# Altium integrated library TI Power Management Linear Regulator Single Channel LDO (0-350mA).IntLib: 1648 symbols (part 46 of 66)
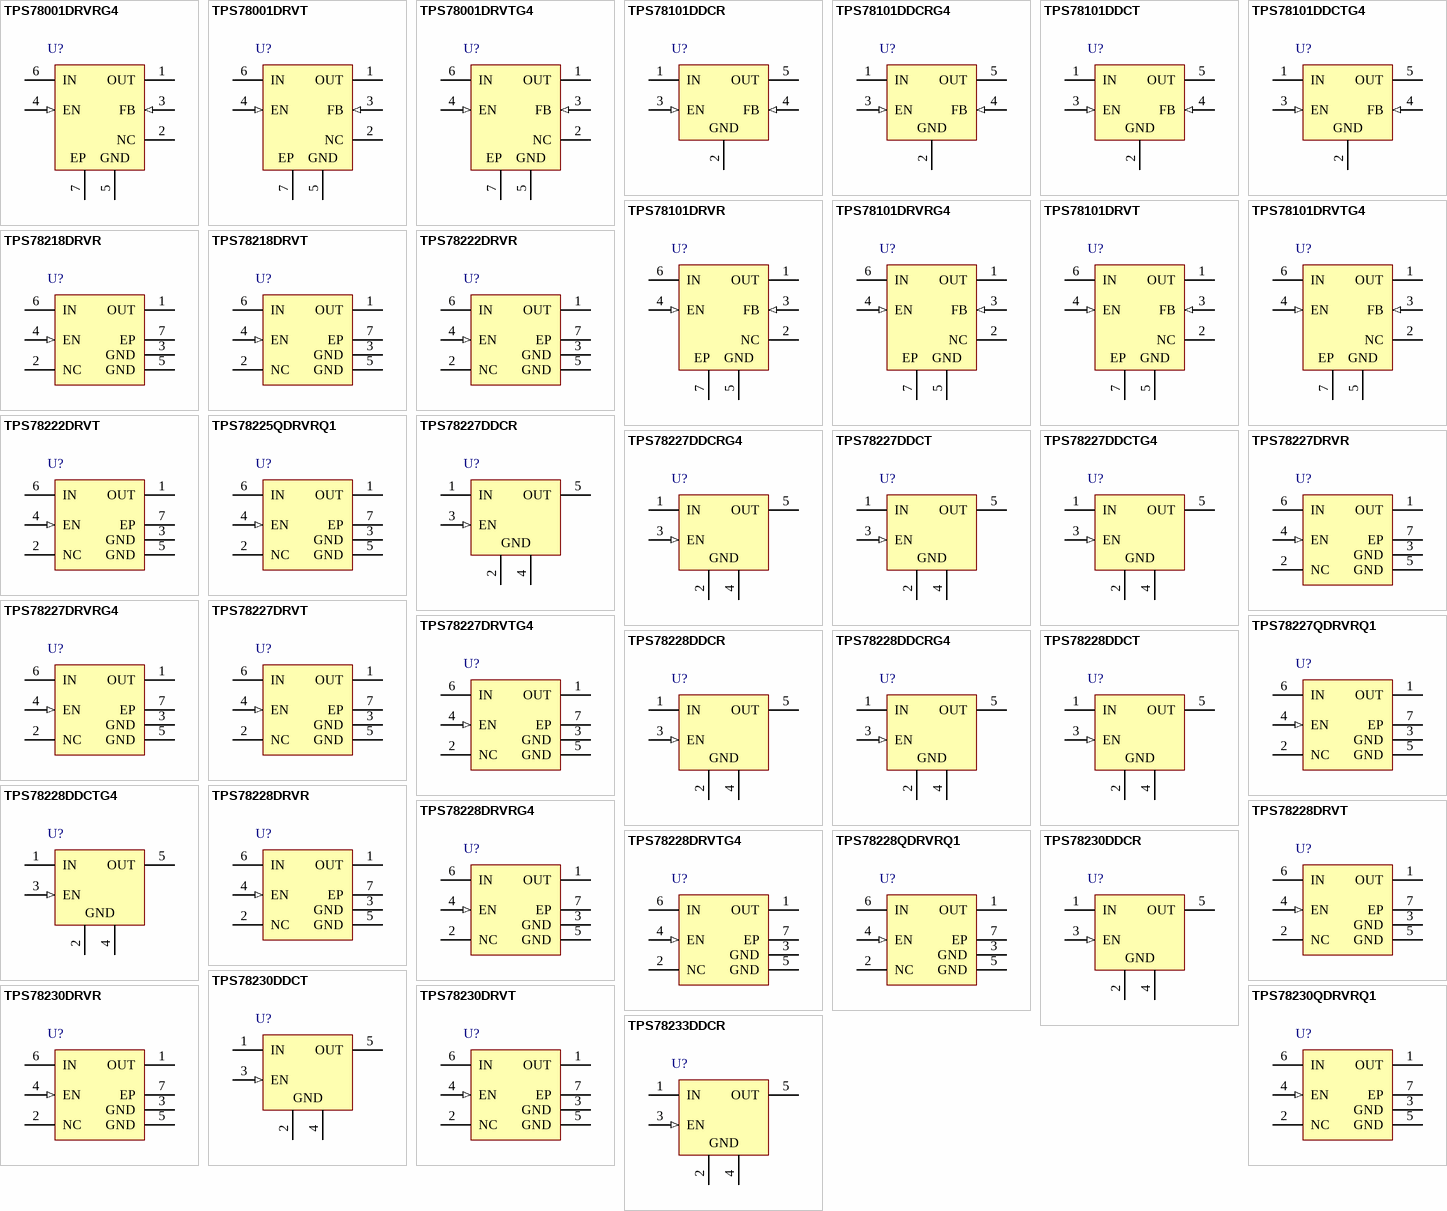
[diagram p87: symbols TPS78001DRVRG4 to TPS78233DDCR]

## TPS78227DRVRG4
designator U?
Single Output LDO, 150 mA, Fixed 2.7 V Output, 2.2 to 5.5 V Input, with 0.5 uA Quiescent Current, 6-pin SON (DRV), -40 to 85 degC, Green (RoHS & no Sb/Br); Manufacturer: Texas Instruments; PartNumber: TPS78227DRVRG4; Accuracy(%): 3; Dynamic Voltage Scaling: TRUE; Fixed Output Options(V): 2.7; Iout(Max)(A): 0.15; Iq(Typ)(mA): 0.0005; Rating: Catalog; SubFamily: Single Channel LDO; Vdo(Typ)(mV): 130; Vin(Max)(V): 5.5; Vin(Min)(V): 2.2; DatasheetVersion: SBVS115B; PackageVersion: 4206925/E; PackageReference: DRV6-1600X1000TP; PackageDescription: 6-Pin Plastic Small Outline No-Lead, Body 2 x 2 mm, Pitch 0.65 mm; Supplier 1: Digi-Key; Supplier Part Number 1: TPS78227DRVRG4-ND; Supplier 2: Mouser; Supplier Part Number 2: 595-TPS78227DRVRG4; Eco-Plan: Green (RoHS & no Sb/Br); Vout Adj(Max)(V): 2.7; Vout Adj(Min)(V): 2.7; Mounting Technology: Surface Mount; ComponentLink1Description: Manufacturer URL; ComponentLink1URL: http://www.ti.com/; ComponentLink2Description: Datasheet; ComponentLink2URL: http://www.ti.com/general/docs/lit/getliterature.tsp?genericPartNumber=TPS78227&fileType=pdf; ComponentLink3Description: Package Specification; ComponentLink3URL: http://www.ti.com/litv/pdf/mpds216d
footprint TI-DRV6-1600X1000TP_V (SON, 6-Leads, Body 2x2mm, Pitch 0.65mm, Thermal Pad 1X1.6mm)
pins: 1 OUT (power) "Regulated output voltage pin. A small (1uF) ceramic capacitor is needed from this pin to ground to assure stability.", 2 NC "Not connected.", 3 GND (power) "ALL ground pins must be tied to ground for proper operation.", 4 EN (in) "Driving the enable pin (EN) over 1.2V turns ON the regulator. Driving this pin below 0.4V puts the regulator into shutdown mode, reducing operating current to 18nA typical.", 5 GND (power) "ALL ground pins must be tied to ground for proper operation.", 6 IN (power) "Input pin. A small capacitor is needed from this pin to ground to assure stability. Typical input capacitor = 1.0uF. Both input and output capacitor grounds should be tied back to the IC ground with no significant impedance (See Datasheet)", 7 EP (power) "It is recommended that the thermal pad on the SON-6 package be connected to ground."

## TPS78227DRVT
designator U?
Single Output LDO, 150 mA, Fixed 2.7 V Output, 2.2 to 5.5 V Input, with 0.5 uA Quiescent Current, 6-pin SON (DRV), -40 to 85 degC, Green (RoHS & no Sb/Br); Manufacturer: Texas Instruments; PartNumber: TPS78227DRVT; Accuracy(%): 3; Dynamic Voltage Scaling: TRUE; Fixed Output Options(V): 2.7; Iout(Max)(A): 0.15; Iq(Typ)(mA): 0.0005; Rating: Catalog; SubFamily: Single Channel LDO; Vdo(Typ)(mV): 130; Vin(Max)(V): 5.5; Vin(Min)(V): 2.2; DatasheetVersion: SBVS115B; PackageVersion: 4206925/E; PackageReference: DRV6-1600X1000TP; PackageDescription: 6-Pin Plastic Small Outline No-Lead, Body 2 x 2 mm, Pitch 0.65 mm; Supplier 1: Digi-Key; Supplier Part Number 1: 296-32569-2-ND; Supplier 2: Digi-Key; Supplier Part Number 2: 296-32569-1-ND; Supplier 3: Digi-Key; Supplier Part Number 3: 296-32569-6-ND; Supplier 4: Mouser; Supplier Part Number 4: 595-TPS78227DRVT; Eco-Plan: Green (RoHS & no Sb/Br); Vout Adj(Max)(V): 2.7; Vout Adj(Min)(V): 2.7; Mounting Technology: Surface Mount; ComponentLink1Description: Manufacturer URL; ComponentLink1URL: http://www.ti.com/; ComponentLink2Description: Datasheet; ComponentLink2URL: http://www.ti.com/general/docs/lit/getliterature.tsp?genericPartNumber=TPS78227&fileType=pdf; ComponentLink3Description: Package Specification; ComponentLink3URL: http://www.ti.com/litv/pdf/mpds216d
footprint TI-DRV6-1600X1000TP_V (SON, 6-Leads, Body 2x2mm, Pitch 0.65mm, Thermal Pad 1X1.6mm)
pins: 1 OUT (power) "Regulated output voltage pin. A small (1uF) ceramic capacitor is needed from this pin to ground to assure stability.", 2 NC "Not connected.", 3 GND (power) "ALL ground pins must be tied to ground for proper operation.", 4 EN (in) "Driving the enable pin (EN) over 1.2V turns ON the regulator. Driving this pin below 0.4V puts the regulator into shutdown mode, reducing operating current to 18nA typical.", 5 GND (power) "ALL ground pins must be tied to ground for proper operation.", 6 IN (power) "Input pin. A small capacitor is needed from this pin to ground to assure stability. Typical input capacitor = 1.0uF. Both input and output capacitor grounds should be tied back to the IC ground with no significant impedance (See Datasheet)", 7 EP (power) "It is recommended that the thermal pad on the SON-6 package be connected to ground."

## TPS78227DRVTG4
designator U?
Single Output LDO, 150 mA, Fixed 2.7 V Output, 2.2 to 5.5 V Input, with 0.5 uA Quiescent Current, 6-pin SON (DRV), -40 to 85 degC, Green (RoHS & no Sb/Br); Manufacturer: Texas Instruments; PartNumber: TPS78227DRVTG4; Accuracy(%): 3; Dynamic Voltage Scaling: TRUE; Fixed Output Options(V): 2.7; Iout(Max)(A): 0.15; Iq(Typ)(mA): 0.0005; Rating: Catalog; SubFamily: Single Channel LDO; Vdo(Typ)(mV): 130; Vin(Max)(V): 5.5; Vin(Min)(V): 2.2; DatasheetVersion: SBVS115B; PackageVersion: 4206925/E; PackageReference: DRV6-1600X1000TP; PackageDescription: 6-Pin Plastic Small Outline No-Lead, Body 2 x 2 mm, Pitch 0.65 mm; Supplier 1: Digi-Key; Supplier Part Number 1: TPS78227DRVTG4-ND; Supplier 2: Mouser; Supplier Part Number 2: 595-TPS78227DRVTG4; Eco-Plan: Green (RoHS & no Sb/Br); Vout Adj(Max)(V): 2.7; Vout Adj(Min)(V): 2.7; Mounting Technology: Surface Mount; ComponentLink1Description: Manufacturer URL; ComponentLink1URL: http://www.ti.com/; ComponentLink2Description: Datasheet; ComponentLink2URL: http://www.ti.com/general/docs/lit/getliterature.tsp?genericPartNumber=TPS78227&fileType=pdf; ComponentLink3Description: Package Specification; ComponentLink3URL: http://www.ti.com/litv/pdf/mpds216d
footprint TI-DRV6-1600X1000TP_V (SON, 6-Leads, Body 2x2mm, Pitch 0.65mm, Thermal Pad 1X1.6mm)
pins: 1 OUT (power) "Regulated output voltage pin. A small (1uF) ceramic capacitor is needed from this pin to ground to assure stability.", 2 NC "Not connected.", 3 GND (power) "ALL ground pins must be tied to ground for proper operation.", 4 EN (in) "Driving the enable pin (EN) over 1.2V turns ON the regulator. Driving this pin below 0.4V puts the regulator into shutdown mode, reducing operating current to 18nA typical.", 5 GND (power) "ALL ground pins must be tied to ground for proper operation.", 6 IN (power) "Input pin. A small capacitor is needed from this pin to ground to assure stability. Typical input capacitor = 1.0uF. Both input and output capacitor grounds should be tied back to the IC ground with no significant impedance (See Datasheet)", 7 EP (power) "It is recommended that the thermal pad on the SON-6 package be connected to ground."

## TPS78227QDRVRQ1
designator U?
Single Output Automotive LDO, 150 mA, Fixed 2.7 V Output, 2.2 to 5.5 V Input, with 1 uA Quiescent Current, 6-pin SON (DRV), -40 to 125 degC, Green (RoHS & no Sb/Br); Manufacturer: Texas Instruments; PartNumber: TPS78227QDRVRQ1; Accuracy(%): 3; Fixed Output Options(V): 2.7; Iout(Max)(A): 0.15; Iq(Typ)(mA): 0.001; SubFamily: Single Channel LDO; Vdo(Typ)(mV): 130; Vin(Max)(V): 5.5; Vin(Min)(V): 2.2; DatasheetVersion: SBVS138; PackageVersion: 4206925/E; PackageReference: DRV6-1600X1000TP; PackageDescription: 6-Pin Plastic Small Outline No-Lead, Body 2 x 2 mm, Pitch 0.65 mm; Supplier 1: Digi-Key; Supplier Part Number 1: 296-25736-2-ND; Supplier 2: Digi-Key; Supplier Part Number 2: 296-25736-1-ND; Supplier 3: Digi-Key; Supplier Part Number 3: 296-25736-6-ND; Supplier 4: Newark; Supplier Part Number 4: 64R0792; Supplier 5: Mouser; Supplier Part Number 5: 595-TPS78227QDRVRQ1; Eco-Plan: Green (RoHS & no Sb/Br); Rating: Automotive; Vout Adj(Max)(V): 2.7; Vout Adj(Min)(V): 2.7; Mounting Technology: Surface Mount; ComponentLink1Description: Manufacturer URL; ComponentLink1URL: http://www.ti.com/; ComponentLink2Description: Datasheet; ComponentLink2URL: http://www.ti.com/general/docs/lit/getliterature.tsp?genericPartNumber=TPS78227-Q1&fileType=pdf; ComponentLink3Description: Package Specification; ComponentLink3URL: http://www.ti.com/litv/pdf/mpds216d
footprint TI-DRV6-1600X1000TP_V (SON, 6-Leads, Body 2x2mm, Pitch 0.65mm, Thermal Pad 1X1.6mm)
pins: 1 OUT (power) "Regulated output voltage pin. A small (1 uF) ceramic capacitor is needed from this pin to ground to assure stability. See the Input and Output Capacitor Requirements in the Application Information section for more details.", 2 NC "Not connected", 3 GND (power) "Ground pin must be tied to ground for proper operation.", 4 EN (in) "Driving the enable pin (EN) over 1.2 V turns ON the regulator. Driving this pin below 0.4 V puts the regulator into shutdown mode, reducing operating current to 18 nA typical.", 5 GND (power) "Ground pin must be tied to ground for proper operation.", 6 IN (power) "Input pin. A small capacitor is needed from this pin to ground to assure stability. Typical input capacitor = 1.0 uF. Both input and output capacitor grounds should be tied back to the IC ground with no significant impedance (See Datasheet)", 7 EP (power) "It is recommended that the thermal pad on the SON-6 package be connected to ground."

## TPS78228DDCR
designator U?
Single Output LDO, 150 mA, Fixed 2.8 V Output, 2.2 to 5.5 V Input, with 0.5 uA Quiescent Current, 5-pin SOT (DDC), -40 to 85 degC, Green (RoHS & no Sb/Br); Manufacturer: Texas Instruments; PartNumber: TPS78228DDCR; Accuracy(%): 3; Fixed Output Options(V): 2.8; Iout(Max)(A): 0.15; Iq(Typ)(mA): 0.0005; Rating: Catalog; SubFamily: Single Channel LDO; Vdo(Typ)(mV): 130; Vin(Max)(V): 5.5; Vin(Min)(V): 2.2; DatasheetVersion: SBVS115B; PackageVersion: 4204403-2/E; PackageReference: DDC5; PackageDescription: 5-Pin Plastic Small Outline, Body 2.9 x 1.6 mm, 0.95 mm Pitch; Supplier 1: Digi-Key; Supplier Part Number 1: 296-23826-2-ND; Supplier 2: Digi-Key; Supplier Part Number 2: 296-23826-1-ND; Supplier 3: Digi-Key; Supplier Part Number 3: 296-23826-6-ND; Supplier 4: Newark; Supplier Part Number 4: 12P8057; Supplier 5: Mouser; Supplier Part Number 5: 595-TPS78228DDCR; Eco-Plan: Green (RoHS & no Sb/Br); Vout Adj(Max)(V): 2.8; Vout Adj(Min)(V): 2.8; Mounting Technology: Surface Mount; Code_JEDEC: MO-193; ComponentLink1Description: Manufacturer URL; ComponentLink1URL: http://www.ti.com/; ComponentLink2Description: Datasheet; ComponentLink2URL: http://www.ti.com/general/docs/lit/getliterature.tsp?genericPartNumber=TPS78228&fileType=pdf; ComponentLink3Description: Package Specification; ComponentLink3URL: http://www.ti.com/litv/pdf/mpds123d
footprint TI-DDC5_N (SOT23, 5-Leads, Body 2.9x1.6mm, Pitch 0.95mm, IPC Medium Density)
footprint TI-DDC5_L (SOT23, 5-Leads, Body 2.9x1.6mm, Pitch 0.95mm, IPC High Density)
footprint TI-DDC5_M (SOT23, 5-Leads, Body 2.9x1.6mm, Pitch 0.95mm, IPC Low Density)
pins: 1 IN (power) "Input pin. A small capacitor is needed from this pin to ground to assure stability. Typical input capacitor = 1.0uF. Both input and output capacitor grounds should be tied back to the IC ground with no significant impedance (See Datasheet)", 2 GND (power) "ALL ground pins must be tied to ground for proper operation.", 3 EN (in) "Driving the enable pin (EN) over 1.2V turns ON the regulator. Driving this pin below 0.4V puts the regulator into shutdown mode, reducing operating current to 18nA typical.", 4 GND (power) "ALL ground pins must be tied to ground for proper operation.", 5 OUT (power) "Regulated output voltage pin. A small (1uF) ceramic capacitor is needed from this pin to ground to assure stability."

## TPS78228DDCRG4
designator U?
Single Output LDO, 150 mA, Fixed 2.8 V Output, 2.2 to 5.5 V Input, with 0.5 uA Quiescent Current, 5-pin SOT (DDC), -40 to 85 degC, Green (RoHS & no Sb/Br); Manufacturer: Texas Instruments; PartNumber: TPS78228DDCRG4; Accuracy(%): 3; Fixed Output Options(V): 2.8; Iout(Max)(A): 0.15; Iq(Typ)(mA): 0.0005; Rating: Catalog; SubFamily: Single Channel LDO; Vdo(Typ)(mV): 130; Vin(Max)(V): 5.5; Vin(Min)(V): 2.2; DatasheetVersion: SBVS115B; PackageVersion: 4204403-2/E; PackageReference: DDC5; PackageDescription: 5-Pin Plastic Small Outline, Body 2.9 x 1.6 mm, 0.95 mm Pitch; Supplier 1: Digi-Key; Supplier Part Number 1: TPS78228DDCRG4-ND; Supplier 2: Mouser; Supplier Part Number 2: 595-TPS78228DDCRG4; Eco-Plan: Green (RoHS & no Sb/Br); Vout Adj(Max)(V): 2.8; Vout Adj(Min)(V): 2.8; Mounting Technology: Surface Mount; Code_JEDEC: MO-193; ComponentLink1Description: Manufacturer URL; ComponentLink1URL: http://www.ti.com/; ComponentLink2Description: Datasheet; ComponentLink2URL: http://www.ti.com/general/docs/lit/getliterature.tsp?genericPartNumber=TPS78228&fileType=pdf; ComponentLink3Description: Package Specification; ComponentLink3URL: http://www.ti.com/litv/pdf/mpds123d
footprint TI-DDC5_N (SOT23, 5-Leads, Body 2.9x1.6mm, Pitch 0.95mm, IPC Medium Density)
footprint TI-DDC5_L (SOT23, 5-Leads, Body 2.9x1.6mm, Pitch 0.95mm, IPC High Density)
footprint TI-DDC5_M (SOT23, 5-Leads, Body 2.9x1.6mm, Pitch 0.95mm, IPC Low Density)
pins: 1 IN (power) "Input pin. A small capacitor is needed from this pin to ground to assure stability. Typical input capacitor = 1.0uF. Both input and output capacitor grounds should be tied back to the IC ground with no significant impedance (See Datasheet)", 2 GND (power) "ALL ground pins must be tied to ground for proper operation.", 3 EN (in) "Driving the enable pin (EN) over 1.2V turns ON the regulator. Driving this pin below 0.4V puts the regulator into shutdown mode, reducing operating current to 18nA typical.", 4 GND (power) "ALL ground pins must be tied to ground for proper operation.", 5 OUT (power) "Regulated output voltage pin. A small (1uF) ceramic capacitor is needed from this pin to ground to assure stability."

## TPS78228DDCT
designator U?
Single Output LDO, 150 mA, Fixed 2.8 V Output, 2.2 to 5.5 V Input, with 0.5 uA Quiescent Current, 5-pin SOT (DDC), -40 to 85 degC, Green (RoHS & no Sb/Br); Manufacturer: Texas Instruments; PartNumber: TPS78228DDCT; Accuracy(%): 3; Fixed Output Options(V): 2.8; Iout(Max)(A): 0.15; Iq(Typ)(mA): 0.0005; Rating: Catalog; SubFamily: Single Channel LDO; Vdo(Typ)(mV): 130; Vin(Max)(V): 5.5; Vin(Min)(V): 2.2; DatasheetVersion: SBVS115B; PackageVersion: 4204403-2/E; PackageReference: DDC5; PackageDescription: 5-Pin Plastic Small Outline, Body 2.9 x 1.6 mm, 0.95 mm Pitch; Supplier 1: Digi-Key; Supplier Part Number 1: 296-32570-2-ND; Supplier 2: Digi-Key; Supplier Part Number 2: 296-32570-1-ND; Supplier 3: Digi-Key; Supplier Part Number 3: 296-32570-6-ND; Supplier 4: Farnell; Supplier Part Number 4: 1684757RL; Supplier 5: Farnell; Supplier Part Number 5: 1684757; Supplier 6: Newark; Supplier Part Number 6: 12P6269; Supplier 7: Newark; Supplier Part Number 7: 40P0974; Supplier 8: Mouser; Supplier Part Number 8: 595-TPS78228DDCT; Eco-Plan: Green (RoHS & no Sb/Br); Vout Adj(Max)(V): 2.8; Vout Adj(Min)(V): 2.8; Mounting Technology: Surface Mount; Code_JEDEC: MO-193; ComponentLink1Description: Manufacturer URL; ComponentLink1URL: http://www.ti.com/; ComponentLink2Description: Datasheet; ComponentLink2URL: http://www.ti.com/general/docs/lit/getliterature.tsp?genericPartNumber=TPS78228&fileType=pdf; ComponentLink3Description: Package Specification; ComponentLink3URL: http://www.ti.com/litv/pdf/mpds123d
footprint TI-DDC5_N (SOT23, 5-Leads, Body 2.9x1.6mm, Pitch 0.95mm, IPC Medium Density)
footprint TI-DDC5_L (SOT23, 5-Leads, Body 2.9x1.6mm, Pitch 0.95mm, IPC High Density)
footprint TI-DDC5_M (SOT23, 5-Leads, Body 2.9x1.6mm, Pitch 0.95mm, IPC Low Density)
pins: 1 IN (power) "Input pin. A small capacitor is needed from this pin to ground to assure stability. Typical input capacitor = 1.0uF. Both input and output capacitor grounds should be tied back to the IC ground with no significant impedance (See Datasheet)", 2 GND (power) "ALL ground pins must be tied to ground for proper operation.", 3 EN (in) "Driving the enable pin (EN) over 1.2V turns ON the regulator. Driving this pin below 0.4V puts the regulator into shutdown mode, reducing operating current to 18nA typical.", 4 GND (power) "ALL ground pins must be tied to ground for proper operation.", 5 OUT (power) "Regulated output voltage pin. A small (1uF) ceramic capacitor is needed from this pin to ground to assure stability."

## TPS78228DDCTG4
designator U?
Single Output LDO, 150 mA, Fixed 2.8 V Output, 2.2 to 5.5 V Input, with 0.5 uA Quiescent Current, 5-pin SOT (DDC), -40 to 85 degC, Green (RoHS & no Sb/Br); Manufacturer: Texas Instruments; PartNumber: TPS78228DDCTG4; Accuracy(%): 3; Fixed Output Options(V): 2.8; Iout(Max)(A): 0.15; Iq(Typ)(mA): 0.0005; Rating: Catalog; SubFamily: Single Channel LDO; Vdo(Typ)(mV): 130; Vin(Max)(V): 5.5; Vin(Min)(V): 2.2; DatasheetVersion: SBVS115B; PackageVersion: 4204403-2/E; PackageReference: DDC5; PackageDescription: 5-Pin Plastic Small Outline, Body 2.9 x 1.6 mm, 0.95 mm Pitch; Supplier 1: Digi-Key; Supplier Part Number 1: TPS78228DDCTG4-ND; Supplier 2: Mouser; Supplier Part Number 2: 595-TPS78228DDCTG4; Eco-Plan: Green (RoHS & no Sb/Br); Vout Adj(Max)(V): 2.8; Vout Adj(Min)(V): 2.8; Mounting Technology: Surface Mount; Code_JEDEC: MO-193; ComponentLink1Description: Manufacturer URL; ComponentLink1URL: http://www.ti.com/; ComponentLink2Description: Datasheet; ComponentLink2URL: http://www.ti.com/general/docs/lit/getliterature.tsp?genericPartNumber=TPS78228&fileType=pdf; ComponentLink3Description: Package Specification; ComponentLink3URL: http://www.ti.com/litv/pdf/mpds123d
footprint TI-DDC5_N (SOT23, 5-Leads, Body 2.9x1.6mm, Pitch 0.95mm, IPC Medium Density)
footprint TI-DDC5_L (SOT23, 5-Leads, Body 2.9x1.6mm, Pitch 0.95mm, IPC High Density)
footprint TI-DDC5_M (SOT23, 5-Leads, Body 2.9x1.6mm, Pitch 0.95mm, IPC Low Density)
pins: 1 IN (power) "Input pin. A small capacitor is needed from this pin to ground to assure stability. Typical input capacitor = 1.0uF. Both input and output capacitor grounds should be tied back to the IC ground with no significant impedance (See Datasheet)", 2 GND (power) "ALL ground pins must be tied to ground for proper operation.", 3 EN (in) "Driving the enable pin (EN) over 1.2V turns ON the regulator. Driving this pin below 0.4V puts the regulator into shutdown mode, reducing operating current to 18nA typical.", 4 GND (power) "ALL ground pins must be tied to ground for proper operation.", 5 OUT (power) "Regulated output voltage pin. A small (1uF) ceramic capacitor is needed from this pin to ground to assure stability."

## TPS78228DRVR
designator U?
Single Output LDO, 150 mA, Fixed 2.8 V Output, 2.2 to 5.5 V Input, with 0.5 uA Quiescent Current, 6-pin SON (DRV), -40 to 85 degC, Green (RoHS & no Sb/Br); Manufacturer: Texas Instruments; PartNumber: TPS78228DRVR; Accuracy(%): 3; Fixed Output Options(V): 2.8; Iout(Max)(A): 0.15; Iq(Typ)(mA): 0.0005; Rating: Catalog; SubFamily: Single Channel LDO; Vdo(Typ)(mV): 130; Vin(Max)(V): 5.5; Vin(Min)(V): 2.2; DatasheetVersion: SBVS115B; PackageVersion: 4206925/E; PackageReference: DRV6-1600X1000TP; PackageDescription: 6-Pin Plastic Small Outline No-Lead, Body 2 x 2 mm, Pitch 0.65 mm; Supplier 1: Digi-Key; Supplier Part Number 1: 296-24681-2-ND; Supplier 2: Digi-Key; Supplier Part Number 2: 296-24681-1-ND; Supplier 3: Digi-Key; Supplier Part Number 3: 296-24681-6-ND; Supplier 4: Mouser; Supplier Part Number 4: 595-TPS78228DRVR; Eco-Plan: Green (RoHS & no Sb/Br); Vout Adj(Max)(V): 2.8; Vout Adj(Min)(V): 2.8; Mounting Technology: Surface Mount; ComponentLink1Description: Manufacturer URL; ComponentLink1URL: http://www.ti.com/; ComponentLink2Description: Datasheet; ComponentLink2URL: http://www.ti.com/general/docs/lit/getliterature.tsp?genericPartNumber=TPS78228&fileType=pdf; ComponentLink3Description: Package Specification; ComponentLink3URL: http://www.ti.com/litv/pdf/mpds216d
footprint TI-DRV6-1600X1000TP_V (SON, 6-Leads, Body 2x2mm, Pitch 0.65mm, Thermal Pad 1X1.6mm)
pins: 1 OUT (power) "Regulated output voltage pin. A small (1uF) ceramic capacitor is needed from this pin to ground to assure stability.", 2 NC "Not connected.", 3 GND (power) "ALL ground pins must be tied to ground for proper operation.", 4 EN (in) "Driving the enable pin (EN) over 1.2V turns ON the regulator. Driving this pin below 0.4V puts the regulator into shutdown mode, reducing operating current to 18nA typical.", 5 GND (power) "ALL ground pins must be tied to ground for proper operation.", 6 IN (power) "Input pin. A small capacitor is needed from this pin to ground to assure stability. Typical input capacitor = 1.0uF. Both input and output capacitor grounds should be tied back to the IC ground with no significant impedance (See Datasheet)", 7 EP (power) "It is recommended that the thermal pad on the SON-6 package be connected to ground."

## TPS78228DRVRG4
designator U?
Single Output LDO, 150 mA, Fixed 2.8 V Output, 2.2 to 5.5 V Input, with 0.5 uA Quiescent Current, 6-pin SON (DRV), -40 to 85 degC, Green (RoHS & no Sb/Br); Manufacturer: Texas Instruments; PartNumber: TPS78228DRVRG4; Accuracy(%): 3; Fixed Output Options(V): 2.8; Iout(Max)(A): 0.15; Iq(Typ)(mA): 0.0005; Rating: Catalog; SubFamily: Single Channel LDO; Vdo(Typ)(mV): 130; Vin(Max)(V): 5.5; Vin(Min)(V): 2.2; DatasheetVersion: SBVS115B; PackageVersion: 4206925/E; PackageReference: DRV6-1600X1000TP; PackageDescription: 6-Pin Plastic Small Outline No-Lead, Body 2 x 2 mm, Pitch 0.65 mm; Supplier 1: Digi-Key; Supplier Part Number 1: TPS78228DRVRG4-ND; Supplier 2: Mouser; Supplier Part Number 2: 595-TPS78228DRVRG4; Eco-Plan: Green (RoHS & no Sb/Br); Vout Adj(Max)(V): 2.8; Vout Adj(Min)(V): 2.8; Mounting Technology: Surface Mount; ComponentLink1Description: Manufacturer URL; ComponentLink1URL: http://www.ti.com/; ComponentLink2Description: Datasheet; ComponentLink2URL: http://www.ti.com/general/docs/lit/getliterature.tsp?genericPartNumber=TPS78228&fileType=pdf; ComponentLink3Description: Package Specification; ComponentLink3URL: http://www.ti.com/litv/pdf/mpds216d
footprint TI-DRV6-1600X1000TP_V (SON, 6-Leads, Body 2x2mm, Pitch 0.65mm, Thermal Pad 1X1.6mm)
pins: 1 OUT (power) "Regulated output voltage pin. A small (1uF) ceramic capacitor is needed from this pin to ground to assure stability.", 2 NC "Not connected.", 3 GND (power) "ALL ground pins must be tied to ground for proper operation.", 4 EN (in) "Driving the enable pin (EN) over 1.2V turns ON the regulator. Driving this pin below 0.4V puts the regulator into shutdown mode, reducing operating current to 18nA typical.", 5 GND (power) "ALL ground pins must be tied to ground for proper operation.", 6 IN (power) "Input pin. A small capacitor is needed from this pin to ground to assure stability. Typical input capacitor = 1.0uF. Both input and output capacitor grounds should be tied back to the IC ground with no significant impedance (See Datasheet)", 7 EP (power) "It is recommended that the thermal pad on the SON-6 package be connected to ground."

## TPS78228DRVT
designator U?
Single Output LDO, 150 mA, Fixed 2.8 V Output, 2.2 to 5.5 V Input, with 0.5 uA Quiescent Current, 6-pin SON (DRV), -40 to 85 degC, Green (RoHS & no Sb/Br); Manufacturer: Texas Instruments; PartNumber: TPS78228DRVT; Accuracy(%): 3; Fixed Output Options(V): 2.8; Iout(Max)(A): 0.15; Iq(Typ)(mA): 0.0005; Rating: Catalog; SubFamily: Single Channel LDO; Vdo(Typ)(mV): 130; Vin(Max)(V): 5.5; Vin(Min)(V): 2.2; DatasheetVersion: SBVS115B; PackageVersion: 4206925/E; PackageReference: DRV6-1600X1000TP; PackageDescription: 6-Pin Plastic Small Outline No-Lead, Body 2 x 2 mm, Pitch 0.65 mm; Supplier 1: Digi-Key; Supplier Part Number 1: 296-32571-2-ND; Supplier 2: Digi-Key; Supplier Part Number 2: 296-32571-1-ND; Supplier 3: Digi-Key; Supplier Part Number 3: 296-32571-6-ND; Supplier 4: Farnell; Supplier Part Number 4: 1690365; Supplier 5: Newark; Supplier Part Number 5: 39P9366; Supplier 6: Mouser; Supplier Part Number 6: 595-TPS78228DRVT; Eco-Plan: Green (RoHS & no Sb/Br); Vout Adj(Max)(V): 2.8; Vout Adj(Min)(V): 2.8; Mounting Technology: Surface Mount; ComponentLink1Description: Manufacturer URL; ComponentLink1URL: http://www.ti.com/; ComponentLink2Description: Datasheet; ComponentLink2URL: http://www.ti.com/general/docs/lit/getliterature.tsp?genericPartNumber=TPS78228&fileType=pdf; ComponentLink3Description: Package Specification; ComponentLink3URL: http://www.ti.com/litv/pdf/mpds216d
footprint TI-DRV6-1600X1000TP_V (SON, 6-Leads, Body 2x2mm, Pitch 0.65mm, Thermal Pad 1X1.6mm)
pins: 1 OUT (power) "Regulated output voltage pin. A small (1uF) ceramic capacitor is needed from this pin to ground to assure stability.", 2 NC "Not connected.", 3 GND (power) "ALL ground pins must be tied to ground for proper operation.", 4 EN (in) "Driving the enable pin (EN) over 1.2V turns ON the regulator. Driving this pin below 0.4V puts the regulator into shutdown mode, reducing operating current to 18nA typical.", 5 GND (power) "ALL ground pins must be tied to ground for proper operation.", 6 IN (power) "Input pin. A small capacitor is needed from this pin to ground to assure stability. Typical input capacitor = 1.0uF. Both input and output capacitor grounds should be tied back to the IC ground with no significant impedance (See Datasheet)", 7 EP (power) "It is recommended that the thermal pad on the SON-6 package be connected to ground."

## TPS78228DRVTG4
designator U?
Single Output LDO, 150 mA, Fixed 2.8 V Output, 2.2 to 5.5 V Input, with 0.5 uA Quiescent Current, 6-pin SON (DRV), -40 to 85 degC, Green (RoHS & no Sb/Br); Manufacturer: Texas Instruments; PartNumber: TPS78228DRVTG4; Accuracy(%): 3; Fixed Output Options(V): 2.8; Iout(Max)(A): 0.15; Iq(Typ)(mA): 0.0005; Rating: Catalog; SubFamily: Single Channel LDO; Vdo(Typ)(mV): 130; Vin(Max)(V): 5.5; Vin(Min)(V): 2.2; DatasheetVersion: SBVS115B; PackageVersion: 4206925/E; PackageReference: DRV6-1600X1000TP; PackageDescription: 6-Pin Plastic Small Outline No-Lead, Body 2 x 2 mm, Pitch 0.65 mm; Supplier 1: Digi-Key; Supplier Part Number 1: TPS78228DRVTG4-ND; Supplier 2: Mouser; Supplier Part Number 2: 595-TPS78228DRVTG4; Eco-Plan: Green (RoHS & no Sb/Br); Vout Adj(Max)(V): 2.8; Vout Adj(Min)(V): 2.8; Mounting Technology: Surface Mount; ComponentLink1Description: Manufacturer URL; ComponentLink1URL: http://www.ti.com/; ComponentLink2Description: Datasheet; ComponentLink2URL: http://www.ti.com/general/docs/lit/getliterature.tsp?genericPartNumber=TPS78228&fileType=pdf; ComponentLink3Description: Package Specification; ComponentLink3URL: http://www.ti.com/litv/pdf/mpds216d
footprint TI-DRV6-1600X1000TP_V (SON, 6-Leads, Body 2x2mm, Pitch 0.65mm, Thermal Pad 1X1.6mm)
pins: 1 OUT (power) "Regulated output voltage pin. A small (1uF) ceramic capacitor is needed from this pin to ground to assure stability.", 2 NC "Not connected.", 3 GND (power) "ALL ground pins must be tied to ground for proper operation.", 4 EN (in) "Driving the enable pin (EN) over 1.2V turns ON the regulator. Driving this pin below 0.4V puts the regulator into shutdown mode, reducing operating current to 18nA typical.", 5 GND (power) "ALL ground pins must be tied to ground for proper operation.", 6 IN (power) "Input pin. A small capacitor is needed from this pin to ground to assure stability. Typical input capacitor = 1.0uF. Both input and output capacitor grounds should be tied back to the IC ground with no significant impedance (See Datasheet)", 7 EP (power) "It is recommended that the thermal pad on the SON-6 package be connected to ground."

## TPS78228QDRVRQ1
designator U?
Single Output Automotive LDO, 150 mA, Fixed 2.8 V Output, 2.2 to 5.5 V Input, with 1 uA Quiescent Current, 6-pin SON (DRV), -40 to 125 degC, Green (RoHS & no Sb/Br); Manufacturer: Texas Instruments; PartNumber: TPS78228QDRVRQ1; Accuracy(%): 3; Fixed Output Options(V): 2.8; Iout(Max)(A): 0.15; Iq(Typ)(mA): 0.001; SubFamily: Single Channel LDO; Vdo(Typ)(mV): 130; Vin(Max)(V): 5.5; Vin(Min)(V): 2.2; DatasheetVersion: SBVS138; PackageVersion: 4206925/E; PackageReference: DRV6-1600X1000TP; PackageDescription: 6-Pin Plastic Small Outline No-Lead, Body 2 x 2 mm, Pitch 0.65 mm; Supplier 1: Digi-Key; Supplier Part Number 1: 296-25737-2-ND; Supplier 2: Digi-Key; Supplier Part Number 2: 296-25737-1-ND; Supplier 3: Digi-Key; Supplier Part Number 3: 296-25737-6-ND; Supplier 4: Newark; Supplier Part Number 4: 64R0793; Supplier 5: Mouser; Supplier Part Number 5: 595-TPS78228QDRVRQ1; Eco-Plan: Green (RoHS & no Sb/Br); Rating: Automotive; Vout Adj(Max)(V): 2.8; Vout Adj(Min)(V): 2.8; Mounting Technology: Surface Mount; ComponentLink1Description: Manufacturer URL; ComponentLink1URL: http://www.ti.com/; ComponentLink2Description: Datasheet; ComponentLink2URL: http://www.ti.com/general/docs/lit/getliterature.tsp?genericPartNumber=TPS78228-Q1&fileType=pdf; ComponentLink3Description: Package Specification; ComponentLink3URL: http://www.ti.com/litv/pdf/mpds216d
footprint TI-DRV6-1600X1000TP_V (SON, 6-Leads, Body 2x2mm, Pitch 0.65mm, Thermal Pad 1X1.6mm)
pins: 1 OUT (power) "Regulated output voltage pin. A small (1 uF) ceramic capacitor is needed from this pin to ground to assure stability. See the Input and Output Capacitor Requirements in the Application Information section for more details.", 2 NC "Not connected", 3 GND (power) "Ground pin must be tied to ground for proper operation.", 4 EN (in) "Driving the enable pin (EN) over 1.2 V turns ON the regulator. Driving this pin below 0.4 V puts the regulator into shutdown mode, reducing operating current to 18 nA typical.", 5 GND (power) "Ground pin must be tied to ground for proper operation.", 6 IN (power) "Input pin. A small capacitor is needed from this pin to ground to assure stability. Typical input capacitor = 1.0 uF. Both input and output capacitor grounds should be tied back to the IC ground with no significant impedance (See Datasheet)", 7 EP (power) "It is recommended that the thermal pad on the SON-6 package be connected to ground."

## TPS78230DDCR
designator U?
Single Output LDO, 150 mA, Fixed 3 V Output, 2.2 to 5.5 V Input, with 0.5 uA Quiescent Current, 5-pin SOT (DDC), -40 to 125 degC, Green (RoHS & no Sb/Br); Manufacturer: Texas Instruments; PartNumber: TPS78230DDCR; Accuracy(%): 3; Dynamic Voltage Scaling: TRUE; Iout(Max)(A): 0.15; Iq(Typ)(mA): 0.0005; Rating: Catalog; SubFamily: Single Channel LDO; Vdo(Typ)(mV): 130; Vin(Max)(V): 5.5; Vin(Min)(V): 2.2; DatasheetVersion: SBVS115B; PackageVersion: 4204403-2/E; PackageReference: DDC5; PackageDescription: 5-Pin Plastic Small Outline, Body 2.9 x 1.6 mm, 0.95 mm Pitch; Supplier 1: Digi-Key; Supplier Part Number 1: 296-24372-2-ND; Supplier 2: Digi-Key; Supplier Part Number 2: 296-24372-1-ND; Supplier 3: Digi-Key; Supplier Part Number 3: 296-24372-6-ND; Supplier 4: Newark; Supplier Part Number 4: 09R6716; Supplier 5: Mouser; Supplier Part Number 5: 595-TPS78230DDCR; Eco-Plan: Green (RoHS & no Sb/Br); Fixed Output Options(V): 3; Vout Adj(Max)(V): 3; Vout Adj(Min)(V): 3; Mounting Technology: Surface Mount; Code_JEDEC: MO-193; ComponentLink1Description: Manufacturer URL; ComponentLink1URL: http://www.ti.com/; ComponentLink2Description: Datasheet; ComponentLink2URL: http://www.ti.com/general/docs/lit/getliterature.tsp?genericPartNumber=TPS78230&fileType=pdf; ComponentLink3Description: Package Specification; ComponentLink3URL: http://www.ti.com/litv/pdf/mpds123d
footprint TI-DDC5_N (SOT23, 5-Leads, Body 2.9x1.6mm, Pitch 0.95mm, IPC Medium Density)
footprint TI-DDC5_L (SOT23, 5-Leads, Body 2.9x1.6mm, Pitch 0.95mm, IPC High Density)
footprint TI-DDC5_M (SOT23, 5-Leads, Body 2.9x1.6mm, Pitch 0.95mm, IPC Low Density)
pins: 1 IN (power) "Input pin. A small capacitor is needed from this pin to ground to assure stability. Typical input capacitor = 1.0uF. Both input and output capacitor grounds should be tied back to the IC ground with no significant impedance (See Datasheet)", 2 GND (power) "ALL ground pins must be tied to ground for proper operation.", 3 EN (in) "Driving the enable pin (EN) over 1.2V turns ON the regulator. Driving this pin below 0.4V puts the regulator into shutdown mode, reducing operating current to 18nA typical.", 4 GND (power) "ALL ground pins must be tied to ground for proper operation.", 5 OUT (power) "Regulated output voltage pin. A small (1uF) ceramic capacitor is needed from this pin to ground to assure stability."

## TPS78230DDCT
designator U?
Single Output LDO, 150 mA, Fixed 3 V Output, 2.2 to 5.5 V Input, with 0.5 uA Quiescent Current, 5-pin SOT (DDC), -40 to 125 degC, Green (RoHS & no Sb/Br); Manufacturer: Texas Instruments; PartNumber: TPS78230DDCT; Accuracy(%): 3; Dynamic Voltage Scaling: TRUE; Iout(Max)(A): 0.15; Iq(Typ)(mA): 0.0005; Rating: Catalog; SubFamily: Single Channel LDO; Vdo(Typ)(mV): 130; Vin(Max)(V): 5.5; Vin(Min)(V): 2.2; DatasheetVersion: SBVS115B; PackageVersion: 4204403-2/E; PackageReference: DDC5; PackageDescription: 5-Pin Plastic Small Outline, Body 2.9 x 1.6 mm, 0.95 mm Pitch; Supplier 1: Digi-Key; Supplier Part Number 1: TPS78230DDCT-ND; Supplier 2: Farnell; Supplier Part Number 2: 1755650RL; Supplier 3: Farnell; Supplier Part Number 3: 1755650; Supplier 4: Newark; Supplier Part Number 4: 34R9256; Supplier 5: Mouser; Supplier Part Number 5: 595-TPS78230DDCT; Eco-Plan: Green (RoHS & no Sb/Br); Fixed Output Options(V): 3; Vout Adj(Max)(V): 3; Vout Adj(Min)(V): 3; Mounting Technology: Surface Mount; Code_JEDEC: MO-193; ComponentLink1Description: Manufacturer URL; ComponentLink1URL: http://www.ti.com/; ComponentLink2Description: Datasheet; ComponentLink2URL: http://www.ti.com/general/docs/lit/getliterature.tsp?genericPartNumber=TPS78230&fileType=pdf; ComponentLink3Description: Package Specification; ComponentLink3URL: http://www.ti.com/litv/pdf/mpds123d
footprint TI-DDC5_N (SOT23, 5-Leads, Body 2.9x1.6mm, Pitch 0.95mm, IPC Medium Density)
footprint TI-DDC5_L (SOT23, 5-Leads, Body 2.9x1.6mm, Pitch 0.95mm, IPC High Density)
footprint TI-DDC5_M (SOT23, 5-Leads, Body 2.9x1.6mm, Pitch 0.95mm, IPC Low Density)
pins: 1 IN (power) "Input pin. A small capacitor is needed from this pin to ground to assure stability. Typical input capacitor = 1.0uF. Both input and output capacitor grounds should be tied back to the IC ground with no significant impedance (See Datasheet)", 2 GND (power) "ALL ground pins must be tied to ground for proper operation.", 3 EN (in) "Driving the enable pin (EN) over 1.2V turns ON the regulator. Driving this pin below 0.4V puts the regulator into shutdown mode, reducing operating current to 18nA typical.", 4 GND (power) "ALL ground pins must be tied to ground for proper operation.", 5 OUT (power) "Regulated output voltage pin. A small (1uF) ceramic capacitor is needed from this pin to ground to assure stability."

## TPS78230DRVR
designator U?
Single Output LDO, 150 mA, Fixed 3 V Output, 2.2 to 5.5 V Input, with 0.5 uA Quiescent Current, 6-pin SON (DRV), -40 to 125 degC, Green (RoHS & no Sb/Br); Manufacturer: Texas Instruments; PartNumber: TPS78230DRVR; Accuracy(%): 3; Dynamic Voltage Scaling: TRUE; Iout(Max)(A): 0.15; Iq(Typ)(mA): 0.0005; Rating: Catalog; SubFamily: Single Channel LDO; Vdo(Typ)(mV): 130; Vin(Max)(V): 5.5; Vin(Min)(V): 2.2; DatasheetVersion: SBVS115B; PackageVersion: 4206925/E; PackageReference: DRV6-1600X1000TP; PackageDescription: 6-Pin Plastic Small Outline No-Lead, Body 2 x 2 mm, Pitch 0.65 mm; Supplier 1: Digi-Key; Supplier Part Number 1: TPS78230DRVR-ND; Supplier 2: Newark; Supplier Part Number 2: 25R0149; Supplier 3: Mouser; Supplier Part Number 3: 595-TPS78230DRVR; Eco-Plan: Green (RoHS & no Sb/Br); Fixed Output Options(V): 3; Vout Adj(Max)(V): 3; Vout Adj(Min)(V): 3; Mounting Technology: Surface Mount; ComponentLink1Description: Manufacturer URL; ComponentLink1URL: http://www.ti.com/; ComponentLink2Description: Datasheet; ComponentLink2URL: http://www.ti.com/general/docs/lit/getliterature.tsp?genericPartNumber=TPS78230&fileType=pdf; ComponentLink3Description: Package Specification; ComponentLink3URL: http://www.ti.com/litv/pdf/mpds216d
footprint TI-DRV6-1600X1000TP_V (SON, 6-Leads, Body 2x2mm, Pitch 0.65mm, Thermal Pad 1X1.6mm)
pins: 1 OUT (power) "Regulated output voltage pin. A small (1uF) ceramic capacitor is needed from this pin to ground to assure stability.", 2 NC "Not connected.", 3 GND (power) "ALL ground pins must be tied to ground for proper operation.", 4 EN (in) "Driving the enable pin (EN) over 1.2V turns ON the regulator. Driving this pin below 0.4V puts the regulator into shutdown mode, reducing operating current to 18nA typical.", 5 GND (power) "ALL ground pins must be tied to ground for proper operation.", 6 IN (power) "Input pin. A small capacitor is needed from this pin to ground to assure stability. Typical input capacitor = 1.0uF. Both input and output capacitor grounds should be tied back to the IC ground with no significant impedance (See Datasheet)", 7 EP (power) "It is recommended that the thermal pad on the SON-6 package be connected to ground."

## TPS78230DRVT
designator U?
Single Output LDO, 150 mA, Fixed 3 V Output, 2.2 to 5.5 V Input, with 0.5 uA Quiescent Current, 6-pin SON (DRV), -40 to 125 degC, Green (RoHS & no Sb/Br); Manufacturer: Texas Instruments; PartNumber: TPS78230DRVT; Accuracy(%): 3; Dynamic Voltage Scaling: TRUE; Iout(Max)(A): 0.15; Iq(Typ)(mA): 0.0005; Rating: Catalog; SubFamily: Single Channel LDO; Vdo(Typ)(mV): 130; Vin(Max)(V): 5.5; Vin(Min)(V): 2.2; DatasheetVersion: SBVS115B; PackageVersion: 4206925/E; PackageReference: DRV6-1600X1000TP; PackageDescription: 6-Pin Plastic Small Outline No-Lead, Body 2 x 2 mm, Pitch 0.65 mm; Supplier 1: Digi-Key; Supplier Part Number 1: 296-24636-2-ND; Supplier 2: Digi-Key; Supplier Part Number 2: 296-24636-1-ND; Supplier 3: Digi-Key; Supplier Part Number 3: 296-24636-6-ND; Supplier 4: Newark; Supplier Part Number 4: 25R0150; Supplier 5: Mouser; Supplier Part Number 5: 595-TPS78230DRVT; Eco-Plan: Green (RoHS & no Sb/Br); Fixed Output Options(V): 3; Vout Adj(Max)(V): 3; Vout Adj(Min)(V): 3; Mounting Technology: Surface Mount; ComponentLink1Description: Manufacturer URL; ComponentLink1URL: http://www.ti.com/; ComponentLink2Description: Datasheet; ComponentLink2URL: http://www.ti.com/general/docs/lit/getliterature.tsp?genericPartNumber=TPS78230&fileType=pdf; ComponentLink3Description: Package Specification; ComponentLink3URL: http://www.ti.com/litv/pdf/mpds216d
footprint TI-DRV6-1600X1000TP_V (SON, 6-Leads, Body 2x2mm, Pitch 0.65mm, Thermal Pad 1X1.6mm)
pins: 1 OUT (power) "Regulated output voltage pin. A small (1uF) ceramic capacitor is needed from this pin to ground to assure stability.", 2 NC "Not connected.", 3 GND (power) "ALL ground pins must be tied to ground for proper operation.", 4 EN (in) "Driving the enable pin (EN) over 1.2V turns ON the regulator. Driving this pin below 0.4V puts the regulator into shutdown mode, reducing operating current to 18nA typical.", 5 GND (power) "ALL ground pins must be tied to ground for proper operation.", 6 IN (power) "Input pin. A small capacitor is needed from this pin to ground to assure stability. Typical input capacitor = 1.0uF. Both input and output capacitor grounds should be tied back to the IC ground with no significant impedance (See Datasheet)", 7 EP (power) "It is recommended that the thermal pad on the SON-6 package be connected to ground."

## TPS78230QDRVRQ1
designator U?
Single Output Automotive LDO, 150 mA, Fixed 3 V Output, 2.2 to 5.5 V Input, with Ultra-Low IQ, 6-pin SON (DRV), -40 to 125 degC, Green (RoHS & no Sb/Br); Manufacturer: Texas Instruments; PartNumber: TPS78230QDRVRQ1; Accuracy(%): 3; Iout(Max)(A): 0.15; Iq(Typ)(mA): 0.001; SubFamily: Single Channel LDO; Vdo(Typ)(mV): 130; Vin(Max)(V): 5.5; Vin(Min)(V): 2.2; DatasheetVersion: SBVS138; PackageVersion: 4206925/E; PackageReference: DRV6-1600X1000TP; PackageDescription: 6-Pin Plastic Small Outline No-Lead, Body 2 x 2 mm, Pitch 0.65 mm; Supplier 1: Digi-Key; Supplier Part Number 1: 296-25738-2-ND; Supplier 2: Digi-Key; Supplier Part Number 2: 296-25738-1-ND; Supplier 3: Digi-Key; Supplier Part Number 3: 296-25738-6-ND; Supplier 4: Newark; Supplier Part Number 4: 64R0794; Supplier 5: Mouser; Supplier Part Number 5: 595-TPS78230QDRVRQ1; Eco-Plan: Green (RoHS & no Sb/Br); Fixed Output Options(V): 3; Rating: Automotive; Vout Adj(Max)(V): 3; Vout Adj(Min)(V): 3; Mounting Technology: Surface Mount; ComponentLink1Description: Manufacturer URL; ComponentLink1URL: http://www.ti.com/; ComponentLink2Description: Datasheet; ComponentLink2URL: http://www.ti.com/general/docs/lit/getliterature.tsp?genericPartNumber=TPS78230-Q1&fileType=pdf; ComponentLink3Description: Package Specification; ComponentLink3URL: http://www.ti.com/litv/pdf/mpds216d
footprint TI-DRV6-1600X1000TP_V (SON, 6-Leads, Body 2x2mm, Pitch 0.65mm, Thermal Pad 1X1.6mm)
pins: 1 OUT (power) "Regulated output voltage pin. A small (1 uF) ceramic capacitor is needed from this pin to ground to assure stability. See the Input and Output Capacitor Requirements in the Application Information section for more details.", 2 NC "Not connected", 3 GND (power) "Ground pin must be tied to ground for proper operation.", 4 EN (in) "Driving the enable pin (EN) over 1.2 V turns ON the regulator. Driving this pin below 0.4 V puts the regulator into shutdown mode, reducing operating current to 18 nA typical.", 5 GND (power) "Ground pin must be tied to ground for proper operation.", 6 IN (power) "Input pin. A small capacitor is needed from this pin to ground to assure stability. Typical input capacitor = 1.0 uF. Both input and output capacitor grounds should be tied back to the IC ground with no significant impedance (See Datasheet)", 7 EP (power) "It is recommended that the thermal pad on the SON-6 package be connected to ground."

## TPS78233DDCR
designator U?
Single Output LDO, 150 mA, Fixed 3.3 V Output, 2.2 to 5.5 V Input, with 0.5 uA Quiescent Current, 5-pin SOT (DDC), -40 to 125 degC, Green (RoHS & no Sb/Br); Manufacturer: Texas Instruments; PartNumber: TPS78233DDCR; Accuracy(%): 3; Dynamic Voltage Scaling: TRUE; Fixed Output Options(V): 3.3; Iout(Max)(A): 0.15; Iq(Typ)(mA): 0.0005; Rating: Catalog; SubFamily: Single Channel LDO; Vdo(Typ)(mV): 130; Vin(Max)(V): 5.5; Vin(Min)(V): 2.2; DatasheetVersion: SBVS115B; PackageVersion: 4204403-2/E; PackageReference: DDC5; PackageDescription: 5-Pin Plastic Small Outline, Body 2.9 x 1.6 mm, 0.95 mm Pitch; Supplier 1: Digi-Key; Supplier Part Number 1: 296-24059-2-ND; Supplier 2: Digi-Key; Supplier Part Number 2: 296-24059-1-ND; Supplier 3: Digi-Key; Supplier Part Number 3: 296-24059-6-ND; Supplier 4: Farnell; Supplier Part Number 4: 1755652RL; Supplier 5: Farnell; Supplier Part Number 5: 1755652; Supplier 6: Newark; Supplier Part Number 6: 79R6657; Supplier 7: Newark; Supplier Part Number 7: 45P8306; Supplier 8: Mouser; Supplier Part Number 8: 595-TPS78233DDCR; Eco-Plan: Green (RoHS & no Sb/Br); Vout Adj(Max)(V): 3.3; Vout Adj(Min)(V): 3.3; Mounting Technology: Surface Mount; Code_JEDEC: MO-193; ComponentLink1Description: Manufacturer URL; ComponentLink1URL: http://www.ti.com/; ComponentLink2Description: Datasheet; ComponentLink2URL: http://www.ti.com/general/docs/lit/getliterature.tsp?genericPartNumber=TPS78233&fileType=pdf; ComponentLink3Description: Package Specification; ComponentLink3URL: http://www.ti.com/litv/pdf/mpds123d
footprint TI-DDC5_N (SOT23, 5-Leads, Body 2.9x1.6mm, Pitch 0.95mm, IPC Medium Density)
footprint TI-DDC5_L (SOT23, 5-Leads, Body 2.9x1.6mm, Pitch 0.95mm, IPC High Density)
footprint TI-DDC5_M (SOT23, 5-Leads, Body 2.9x1.6mm, Pitch 0.95mm, IPC Low Density)
pins: 1 IN (power) "Input pin. A small capacitor is needed from this pin to ground to assure stability. Typical input capacitor = 1.0uF. Both input and output capacitor grounds should be tied back to the IC ground with no significant impedance (See Datasheet)", 2 GND (power) "ALL ground pins must be tied to ground for proper operation.", 3 EN (in) "Driving the enable pin (EN) over 1.2V turns ON the regulator. Driving this pin below 0.4V puts the regulator into shutdown mode, reducing operating current to 18nA typical.", 4 GND (power) "ALL ground pins must be tied to ground for proper operation.", 5 OUT (power) "Regulated output voltage pin. A small (1uF) ceramic capacitor is needed from this pin to ground to assure stability."

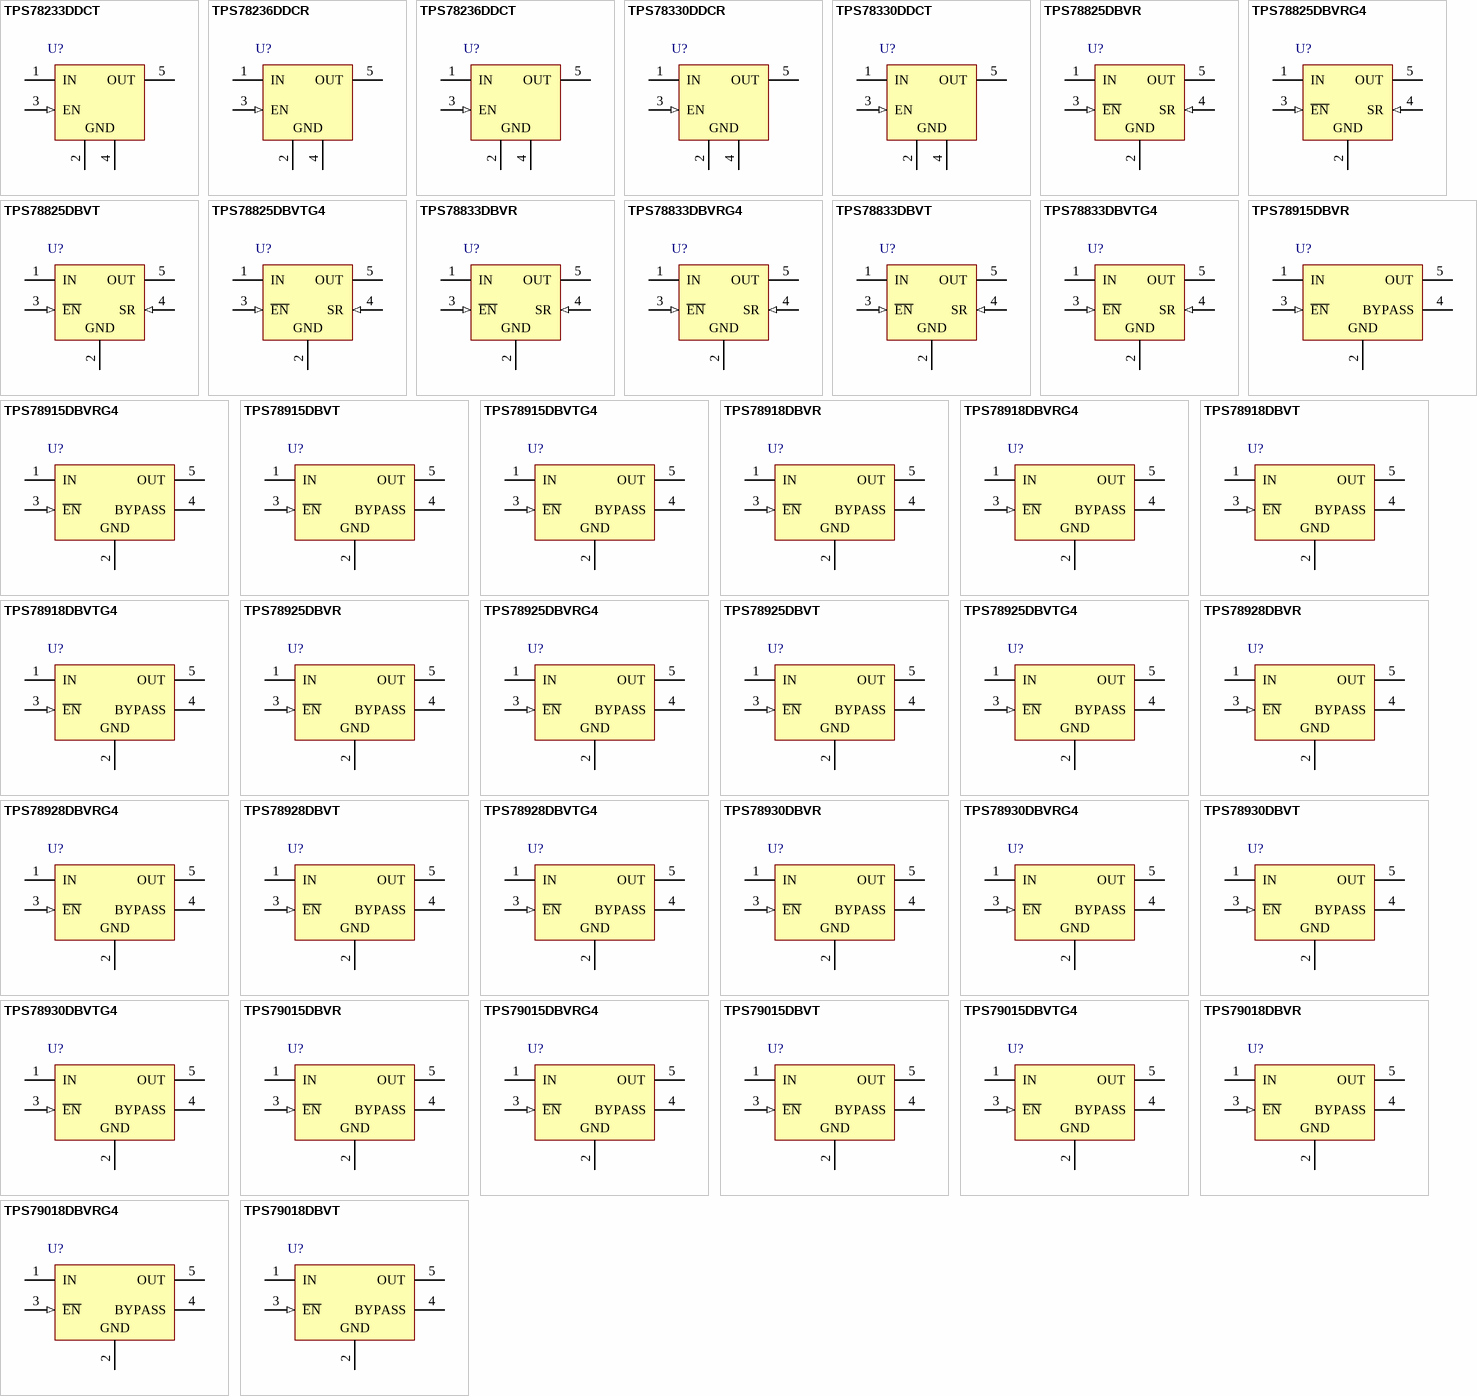
[diagram p31: symbols TPS78233DDCT to TPS79018DBVT]

## TPS78233DDCT
designator U?
Single Output LDO, 150 mA, Fixed 3.3 V Output, 2.2 to 5.5 V Input, with 0.5 uA Quiescent Current, 5-pin SOT (DDC), -40 to 125 degC, Green (RoHS & no Sb/Br); Manufacturer: Texas Instruments; PartNumber: TPS78233DDCT; Accuracy(%): 3; Dynamic Voltage Scaling: TRUE; Fixed Output Options(V): 3.3; Iout(Max)(A): 0.15; Iq(Typ)(mA): 0.0005; Rating: Catalog; SubFamily: Single Channel LDO; Vdo(Typ)(mV): 130; Vin(Max)(V): 5.5; Vin(Min)(V): 2.2; DatasheetVersion: SBVS115B; PackageVersion: 4204403-2/E; PackageReference: DDC5; PackageDescription: 5-Pin Plastic Small Outline, Body 2.9 x 1.6 mm, 0.95 mm Pitch; Supplier 1: Digi-Key; Supplier Part Number 1: 296-24120-2-ND; Supplier 2: Digi-Key; Supplier Part Number 2: 296-24120-1-ND; Supplier 3: Digi-Key; Supplier Part Number 3: 296-24120-6-ND; Supplier 4: Farnell; Supplier Part Number 4: 1710835; Supplier 5: Farnell; Supplier Part Number 5: 1710835RL; Supplier 6: Newark; Supplier Part Number 6: 15R2554; Supplier 7: Newark; Supplier Part Number 7: 45P8307; Supplier 8: Mouser; Supplier Part Number 8: 595-TPS78233DDCT; Eco-Plan: Green (RoHS & no Sb/Br); Vout Adj(Max)(V): 3.3; Vout Adj(Min)(V): 3.3; Mounting Technology: Surface Mount; Code_JEDEC: MO-193; ComponentLink1Description: Manufacturer URL; ComponentLink1URL: http://www.ti.com/; ComponentLink2Description: Datasheet; ComponentLink2URL: http://www.ti.com/general/docs/lit/getliterature.tsp?genericPartNumber=TPS78233&fileType=pdf; ComponentLink3Description: Package Specification; ComponentLink3URL: http://www.ti.com/litv/pdf/mpds123d
footprint TI-DDC5_N (SOT23, 5-Leads, Body 2.9x1.6mm, Pitch 0.95mm, IPC Medium Density)
footprint TI-DDC5_L (SOT23, 5-Leads, Body 2.9x1.6mm, Pitch 0.95mm, IPC High Density)
footprint TI-DDC5_M (SOT23, 5-Leads, Body 2.9x1.6mm, Pitch 0.95mm, IPC Low Density)
pins: 1 IN (power) "Input pin. A small capacitor is needed from this pin to ground to assure stability. Typical input capacitor = 1.0uF. Both input and output capacitor grounds should be tied back to the IC ground with no significant impedance (See Datasheet)", 2 GND (power) "ALL ground pins must be tied to ground for proper operation.", 3 EN (in) "Driving the enable pin (EN) over 1.2V turns ON the regulator. Driving this pin below 0.4V puts the regulator into shutdown mode, reducing operating current to 18nA typical.", 4 GND (power) "ALL ground pins must be tied to ground for proper operation.", 5 OUT (power) "Regulated output voltage pin. A small (1uF) ceramic capacitor is needed from this pin to ground to assure stability."

## TPS78236DDCR
designator U?
Single Output LDO, 150 mA, Fixed 3.6 V Output, 2.2 to 5.5 V Input, with 0.5 uA Quiescent Current, 5-pin SOT (DDC), -40 to 85 degC, Green (RoHS & no Sb/Br); Manufacturer: Texas Instruments; PartNumber: TPS78236DDCR; Accuracy(%): 3; Dynamic Voltage Scaling: TRUE; Fixed Output Options(V): 3.6; Iout(Max)(A): 0.15; Iq(Typ)(mA): 0.0005; Rating: Catalog; SubFamily: Single Channel LDO; Vdo(Typ)(mV): 130; Vin(Max)(V): 5.5; Vin(Min)(V): 2.2; DatasheetVersion: SBVS115B; PackageVersion: 4204403-2/E; PackageReference: DDC5; PackageDescription: 5-Pin Plastic Small Outline, Body 2.9 x 1.6 mm, 0.95 mm Pitch; Supplier 1: Digi-Key; Supplier Part Number 1: TPS78236DDCR-ND; Supplier 2: Newark; Supplier Part Number 2: 92T2407; Supplier 3: Mouser; Supplier Part Number 3: 595-TPS78236DDCR; Eco-Plan: Green (RoHS & no Sb/Br); Vout Adj(Max)(V): 3.6; Vout Adj(Min)(V): 3.6; Mounting Technology: Surface Mount; Code_JEDEC: MO-193; ComponentLink1Description: Manufacturer URL; ComponentLink1URL: http://www.ti.com/; ComponentLink2Description: Datasheet; ComponentLink2URL: http://www.ti.com/general/docs/lit/getliterature.tsp?genericPartNumber=TPS78236&fileType=pdf; ComponentLink3Description: Package Specification; ComponentLink3URL: http://www.ti.com/litv/pdf/mpds123d
footprint TI-DDC5_N (SOT23, 5-Leads, Body 2.9x1.6mm, Pitch 0.95mm, IPC Medium Density)
footprint TI-DDC5_L (SOT23, 5-Leads, Body 2.9x1.6mm, Pitch 0.95mm, IPC High Density)
footprint TI-DDC5_M (SOT23, 5-Leads, Body 2.9x1.6mm, Pitch 0.95mm, IPC Low Density)
pins: 1 IN (power) "Input pin. A small capacitor is needed from this pin to ground to assure stability. Typical input capacitor = 1.0uF. Both input and output capacitor grounds should be tied back to the IC ground with no significant impedance (See Datasheet)", 2 GND (power) "ALL ground pins must be tied to ground for proper operation.", 3 EN (in) "Driving the enable pin (EN) over 1.2V turns ON the regulator. Driving this pin below 0.4V puts the regulator into shutdown mode, reducing operating current to 18nA typical.", 4 GND (power) "ALL ground pins must be tied to ground for proper operation.", 5 OUT (power) "Regulated output voltage pin. A small (1uF) ceramic capacitor is needed from this pin to ground to assure stability."